# Altium integrated library NXP Semiconductors Standard MOSFETs.IntLib: 477 symbols (part 11 of 14)
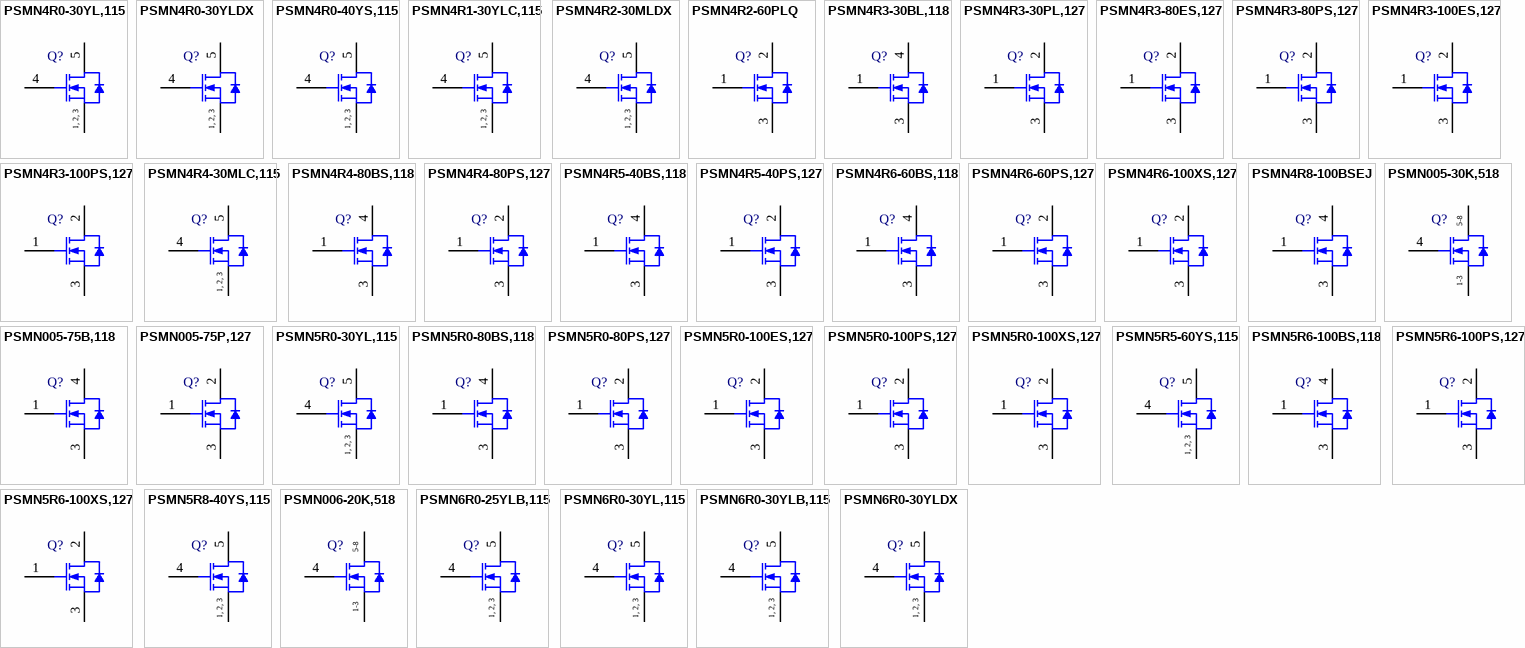
[diagram p22: symbols PSMN4R0-30YL,115 to PSMN6R0-30YLDX]

## PSMN4R5-40BS,118
designator Q?
N-Channel Standard Level MOSFET, 40 V, 100 A, 3-Pin SOT404, Tape and Reel; Manufacturer: NXP Semiconductors; PartNumber: PSMN4R5-40BS,118; Channel Type: N; Ciss [typ] (pF): 2683; Coss [typ] (pF): 660; ID [max] (A): 100; Packing: Tape & Reel; Qr [typ] (nC): 33; VDS [max] (V): 40; VGSth [typ] (V): 3; DatasheetVersion: Rev. 1; PackageVersion: 13-02-25, 02/2013; PackageReference: SOT404; PackageDescription: 3-Pin Plastic Single-ended Surface Mounted Package, Body 10 x 9.6 mm, Pitch 2.54 mm; Supplier 1: Digi-Key; Supplier Part Number 1: 568-9490-2-ND; Supplier 2: Digi-Key; Supplier Part Number 2: 568-9490-1-ND; Supplier 3: Digi-Key; Supplier Part Number 3: 568-9490-6-ND; Supplier 4: Mouser; Supplier Part Number 4: 771-PSMN4R5-40BS,118; Mounting Technology: Surface Mount; ComponentLink1Description: Manufacturer URL; ComponentLink1URL: http://www.nxp.com/; ComponentLink2Description: Datasheet; ComponentLink2URL: http://www.nxp.com/documents/data_sheet/PSMN4R5-40BS.pdf; ComponentLink3Description: Package Specification; ComponentLink3URL: http://www.nxp.com/documents/outline_drawing/sot404_po.pdf
footprint NXP-SOT404_N (DPAK, 3-Leads, Body 10.3x9.8mm, Pitch 2.54mm, IPC Medium Density)
footprint NXP-SOT404_L (DPAK, 3-Leads, Body 10.3x9.8mm, Pitch 2.54mm, IPC High Density)
footprint NXP-SOT404_M (DPAK, 3-Leads, Body 10.3x9.8mm, Pitch 2.54mm, IPC Low Density)
pins: 1 G "gate", 3 S "source", 4 D "mounting base; connected to drain"

## PSMN4R5-40PS,127
designator Q?
N-Channel Standard Level MOSFET, 40 V, 100 A, 3-Pin SOT78, Tube; Manufacturer: NXP Semiconductors; PartNumber: PSMN4R5-40PS,127; Channel Type: N; Ciss [typ] (pF): 2683; Coss [typ] (pF): 660; ID [max] (A): 100; Qr [typ] (nC): 33; VDS [max] (V): 40; VGSth [typ] (V): 3; DatasheetVersion: Rev. 02; PackageVersion: 08-06-13, 06/2008; PackageReference: SOT78; PackageDescription: 3-Pin Flange Mount, Vertical Straight Lead, Body 10 x 4.4 mm, Pitch 2.54 mm; Supplier 1: Digi-Key; Supplier Part Number 1: 568-4895-5-ND; Supplier 2: Newark; Supplier Part Number 2: 70R7970; Supplier 3: Mouser; Supplier Part Number 3: 771-PSMN4R5-40PS,127; Packing: Tube; Mounting Technology: Through Hole; Code_JEITA: SC-46; Code_JEDEC: 3-lead TO-220AB; ComponentLink1Description: Manufacturer URL; ComponentLink1URL: http://www.nxp.com/; ComponentLink2Description: Datasheet; ComponentLink2URL: http://www.nxp.com/documents/data_sheet/PSMN4R5-40PS.pdf; ComponentLink3Description: Package Specification; ComponentLink3URL: http://www.nxp.com/documents/outline_drawing/sot078_po.pdf
footprint NXP-SOT78 (FM, 3-Leads, Body 10.3x4.7mm, Pitch 2.54mm)
pins: 1 G "gate", 2 D "drain", 3 S "source"

## PSMN4R6-60BS,118
designator Q?
N-Channel Standard Level MOSFET, 60 V, 100 A, 3-Pin SOT404, Tape and Reel; Manufacturer: NXP Semiconductors; PartNumber: PSMN4R6-60BS,118; Channel Type: N; Ciss [typ] (pF): 4426; Coss [typ] (pF): 567; ID [max] (A): 100; Packing: Tape & Reel; Qr [typ] (nC): 64; VDS [max] (V): 60; VGSth [typ] (V): 3; DatasheetVersion: Rev. 1; PackageVersion: 13-02-25, 02/2013; PackageReference: SOT404; PackageDescription: 3-Pin Plastic Single-ended Surface Mounted Package, Body 10 x 9.6 mm, Pitch 2.54 mm; Supplier 1: Digi-Key; Supplier Part Number 1: 568-9492-2-ND; Supplier 2: Digi-Key; Supplier Part Number 2: 568-9492-1-ND; Supplier 3: Digi-Key; Supplier Part Number 3: 568-9492-6-ND; Supplier 4: Mouser; Supplier Part Number 4: 771-PSMN4R6-60BS,118; Mounting Technology: Surface Mount; ComponentLink1Description: Manufacturer URL; ComponentLink1URL: http://www.nxp.com/; ComponentLink2Description: Datasheet; ComponentLink2URL: http://www.nxp.com/documents/data_sheet/PSMN4R6-60BS.pdf; ComponentLink3Description: Package Specification; ComponentLink3URL: http://www.nxp.com/documents/outline_drawing/sot404_po.pdf
footprint NXP-SOT404_N (DPAK, 3-Leads, Body 10.3x9.8mm, Pitch 2.54mm, IPC Medium Density)
footprint NXP-SOT404_L (DPAK, 3-Leads, Body 10.3x9.8mm, Pitch 2.54mm, IPC High Density)
footprint NXP-SOT404_M (DPAK, 3-Leads, Body 10.3x9.8mm, Pitch 2.54mm, IPC Low Density)
pins: 1 G "gate", 3 S "source", 4 D "mounting base; connected to drain"

## PSMN4R6-60PS,127
designator Q?
N-Channel Standard Level MOSFET, 60 V, 100 A, 3-Pin SOT78, Tube; Manufacturer: NXP Semiconductors; PartNumber: PSMN4R6-60PS,127; Channel Type: N; Ciss [typ] (pF): 4426; Coss [typ] (pF): 567; ID [max] (A): 100; Qr [typ] (nC): 64; VDS [max] (V): 60; VGSth [typ] (V): 3; DatasheetVersion: Rev. 3; PackageVersion: 08-06-13, 06/2008; PackageReference: SOT78; PackageDescription: 3-Pin Flange Mount, Vertical Straight Lead, Body 10 x 4.4 mm, Pitch 2.54 mm; Supplier 1: Digi-Key; Supplier Part Number 1: 568-5780-5-ND; Supplier 2: Newark; Supplier Part Number 2: 72R6294; Supplier 3: Mouser; Supplier Part Number 3: 771-PSMN4R6-60PS-127; Packing: Tube; Mounting Technology: Through Hole; Code_JEITA: SC-46; Code_JEDEC: 3-lead TO-220AB; ComponentLink1Description: Manufacturer URL; ComponentLink1URL: http://www.nxp.com/; ComponentLink2Description: Datasheet; ComponentLink2URL: http://www.nxp.com/documents/data_sheet/PSMN4R6-60PS.pdf; ComponentLink3Description: Package Specification; ComponentLink3URL: http://www.nxp.com/documents/outline_drawing/sot078_po.pdf
footprint NXP-SOT78 (FM, 3-Leads, Body 10.3x4.7mm, Pitch 2.54mm)
pins: 1 G "gate", 2 D "drain", 3 S "source"

## PSMN4R6-100XS,127
designator Q?
N-Channel Standard Level MOSFET, 100 V, 70.4 A, 3-Pin SOT186A, Rail; Manufacturer: NXP Semiconductors; PartNumber: PSMN4R6-100XS,127; Channel Type: N; Ciss [typ] (pF): 9900; Coss [typ] (pF): 660; ID [max] (A): 70.4; Qr [typ] (nC): 173; VDS [max] (V): 100; VGSth [typ] (V): 3; DatasheetVersion: Rev. 1; PackageVersion: 06-02-14, 02/2006; PackageReference: SOT186A; PackageDescription: 3-Pin Flange Mount, Vertical Straight Lead, Body 10 x 4.3 mm, Pitch 2.54 mm; Supplier 1: Digi-Key; Supplier Part Number 1: 568-10158-ND; Supplier 2: Newark; Supplier Part Number 2: 45W9072; Supplier 3: Mouser; Supplier Part Number 3: 771-PSMN4R6-100XS127; Packing: Rail; Mounting Technology: Through Hole; Code_JEDEC: 3-lead TO-220F; ComponentLink1Description: Manufacturer URL; ComponentLink1URL: http://www.nxp.com/; ComponentLink2Description: Datasheet; ComponentLink2URL: http://www.nxp.com/documents/data_sheet/PSMN4R6-100XS.pdf; ComponentLink3Description: Package Specification; ComponentLink3URL: http://www.nxp.com/documents/outline_drawing/sot186a_po.pdf
footprint NXP-SOT186A (FM, 3-Leads, Body 10.3x4.6mm, Pitch 2.54mm)
pins: 1 G "gate", 2 D "drain", 3 S "source"

## PSMN4R8-100BSEJ
designator Q?
N-Channel Standard Level MOSFET, 100 V, 120 A, 3-Pin SOT404, Tape and Reel; Manufacturer: NXP Semiconductors; PartNumber: PSMN4R8-100BSEJ; Channel Type: N; Ciss [typ] (pF): 10665; Coss [typ] (pF): 674; ID [max] (A): 120; Packing: Tape & Reel; Qr [typ] (nC): 227; VDS [max] (V): 100; VGSth [typ] (V): 3; PackageVersion: 13-02-25, 02/2013; PackageReference: SOT404; PackageDescription: 3-Pin Plastic Single-ended Surface Mounted Package, Body 10 x 9.6 mm, Pitch 2.54 mm; Supplier 1: Digi-Key; Supplier Part Number 1: 568-10258-2-ND; Supplier 2: Digi-Key; Supplier Part Number 2: 568-10258-1-ND; Supplier 3: Digi-Key; Supplier Part Number 3: 568-10258-6-ND; Supplier 4: Newark; Supplier Part Number 4: 55W7093; Supplier 5: Mouser; Supplier Part Number 5: 771-PSMN4R8-100BSEJ; Mounting Technology: Surface Mount; ComponentLink1Description: Manufacturer URL; ComponentLink1URL: http://www.nxp.com/; ComponentLink2Description: Datasheet; ComponentLink2URL: http://www.nxp.com/documents/data_sheet/PSMN4R8-100BSE.pdf; ComponentLink3Description: Package Specification; ComponentLink3URL: http://www.nxp.com/documents/outline_drawing/sot404_po.pdf
footprint NXP-SOT404_N (DPAK, 3-Leads, Body 10.3x9.8mm, Pitch 2.54mm, IPC Medium Density)
footprint NXP-SOT404_L (DPAK, 3-Leads, Body 10.3x9.8mm, Pitch 2.54mm, IPC High Density)
footprint NXP-SOT404_M (DPAK, 3-Leads, Body 10.3x9.8mm, Pitch 2.54mm, IPC Low Density)
pins: 1 G "gate", 3 S "source", 4 D "mounting base; connected to drain"

## PSMN005-30K,518
designator Q?
N-Channel TrenchMOS SiliconMAX Logic Level FET, 30 V, 20 A, 8-Pin SOT96-1, Reel; Manufacturer: NXP Semiconductors; PartNumber: PSMN005-30K,518; Channel Type: N; Ciss [typ] (pF): 3100; Coss [typ] (pF): 605; ID [max] (A): 20; VDS [max] (V): 30; Code_IEC: 76000; DatasheetVersion: Rev. 2; PackageVersion: 03-02-18, 02/2003; PackageReference: SOT96-1; PackageDescription: 8-Pin Plastic Small Outline Package, Body 4.9 x 3.9 mm, Pitch 1.27 mm; Supplier 1: Digi-Key; Supplier Part Number 1: PSMN005-30K,518-ND; Supplier 2: Newark; Supplier Part Number 2: 79R2053; Supplier 3: Mouser; Supplier Part Number 3: 771-PSMN005-30K518; Packing: Reel; Qr [typ] (nC): 20; Mounting Technology: Surface Mount; Code_JEDEC: MS-012; ComponentLink1Description: Manufacturer URL; ComponentLink1URL: http://www.nxp.com/; ComponentLink2Description: Datasheet; ComponentLink2URL: http://www.nxp.com/documents/data_sheet/PSMN005-30K.pdf; ComponentLink3Description: Package Specification; ComponentLink3URL: http://www.nxp.com/documents/outline_drawing/sot096-1_po.pdf
footprint NXP-SOT96-1_N (SOIC, 8-Leads, Body 5x4mm, Pitch 1.27mm, IPC Medium Density)
footprint NXP-SOT96-1_L (SOIC, 8-Leads, Body 5x4mm, Pitch 1.27mm, IPC High Density)
footprint NXP-SOT96-1_M (SOIC, 8-Leads, Body 5x4mm, Pitch 1.27mm, IPC Low Density)
pins: 1 S "source", 2 S "source", 3 S "source", 4 G "gate", 5 D "drain", 6 D "drain", 7 D "drain", 8 D "drain"
text: 5-8; 1-3

## PSMN005-75B,118
designator Q?
N-Channel TrenchMOS SiliconMAX Standard Level FET, 75 V, 75 A, 3-Pin SOT404, Tape and Reel; Manufacturer: NXP Semiconductors; PartNumber: PSMN005-75B,118; Channel Type: N; Ciss [typ] (pF): 8250; Coss [typ] (pF): 920; ID [max] (A): 75; Packing: Tape & Reel; VGSth [typ] (V): 3; DatasheetVersion: Rev. 01; PackageVersion: 13-02-25, 02/2013; PackageReference: SOT404; PackageDescription: 3-Pin Plastic Single-ended Surface Mounted Package, Body 10 x 9.6 mm, Pitch 2.54 mm; Supplier 1: Digi-Key; Supplier Part Number 1: 568-5947-2-ND; Supplier 2: Digi-Key; Supplier Part Number 2: 568-5947-1-ND; Supplier 3: Digi-Key; Supplier Part Number 3: 568-5947-6-ND; Supplier 4: Mouser; Supplier Part Number 4: 771-PSMN005-75B118; VDS [max] (V): 75; Mounting Technology: Surface Mount; ComponentLink1Description: Manufacturer URL; ComponentLink1URL: http://www.nxp.com/; ComponentLink2Description: Datasheet; ComponentLink2URL: http://www.nxp.com/documents/data_sheet/PSMN005-75B.pdf; ComponentLink3Description: Package Specification; ComponentLink3URL: http://www.nxp.com/documents/outline_drawing/sot404_po.pdf
footprint NXP-SOT404_N (DPAK, 3-Leads, Body 10.3x9.8mm, Pitch 2.54mm, IPC Medium Density)
footprint NXP-SOT404_L (DPAK, 3-Leads, Body 10.3x9.8mm, Pitch 2.54mm, IPC High Density)
footprint NXP-SOT404_M (DPAK, 3-Leads, Body 10.3x9.8mm, Pitch 2.54mm, IPC Low Density)
pins: 1 G "gate", 3 S "source", 4 D "mounting base; connected to drain"

## PSMN005-75P,127
designator Q?
N-Channel TrenchMOS SiliconMAX Standard Level FET, 75 V, 75 A, 3-Pin SOT78, Tube; Manufacturer: NXP Semiconductors; PartNumber: PSMN005-75P,127; Channel Type: N; Ciss [typ] (pF): 8250; Coss [typ] (pF): 920; ID [max] (A): 75; VGSth [typ] (V): 3; DatasheetVersion: Rev. 01; PackageVersion: 08-06-13, 06/2008; PackageReference: SOT78; PackageDescription: 3-Pin Flange Mount, Vertical Straight Lead, Body 10 x 4.4 mm, Pitch 2.54 mm; Supplier 1: Digi-Key; Supplier Part Number 1: PSMN005-75P,127-ND; Supplier 2: Mouser; Supplier Part Number 2: 771-PSMN005-75P127; Packing: Tube; VDS [max] (V): 75; Mounting Technology: Through Hole; Code_JEITA: SC-46; Code_JEDEC: 3-lead TO-220AB; ComponentLink1Description: Manufacturer URL; ComponentLink1URL: http://www.nxp.com/; ComponentLink2Description: Datasheet; ComponentLink2URL: http://www.nxp.com/documents/data_sheet/PSMN005-75P.pdf; ComponentLink3Description: Package Specification; ComponentLink3URL: http://www.nxp.com/documents/outline_drawing/sot078_po.pdf
footprint NXP-SOT78 (FM, 3-Leads, Body 10.3x4.7mm, Pitch 2.54mm)
pins: 1 G "gate", 2 D "drain", 3 S "source"

## PSMN5R0-30YL,115
designator Q?
N-Channel Logic Level MOSFET, 30 V, 91 A, 5-Pin SOT669, Tape and Reel; Manufacturer: NXP Semiconductors; PartNumber: PSMN5R0-30YL,115; Channel Type: N; Ciss [typ] (pF): 1760; Coss [typ] (pF): 373; ID [max] (A): 91; Packing: Tape & Reel; Qr [typ] (nC): 21; VDS [max] (V): 30; VGSth [typ] (V): 1.7; DatasheetVersion: Rev. 4; PackageVersion: 13-02-27, 02/2013; PackageReference: SOT669; PackageDescription: 4-Pin Plastic Single-ended Surface Mounted Package, Body 4.9 x 3.95 mm, Pitch 1.27 mm; Supplier 1: Digi-Key; Supplier Part Number 1: 568-4684-2-ND; Supplier 2: Digi-Key; Supplier Part Number 2: 568-4684-1-ND; Supplier 3: Digi-Key; Supplier Part Number 3: 568-4684-6-ND; Supplier 4: Newark; Supplier Part Number 4: 79R2068; Supplier 5: Newark; Supplier Part Number 5: 70R7971; Supplier 6: Mouser; Supplier Part Number 6: 771-PSMN5R0-30YL-T/R; Mounting Technology: Surface Mount; Code_JEDEC: MO-235; ComponentLink1Description: Manufacturer URL; ComponentLink1URL: http://www.nxp.com/; ComponentLink2Description: Datasheet; ComponentLink2URL: http://www.nxp.com/documents/data_sheet/PSMN5R0-30YL.pdf; ComponentLink3Description: Package Specification; ComponentLink3URL: http://www.nxp.com/documents/outline_drawing/sot669_po.pdf
footprint NXP-SOT669_N (DPAK, 4-Leads, Body 5x4.1mm, Pitch 1.27mm, IPC Medium Density)
footprint NXP-SOT669_L (DPAK, 4-Leads, Body 5x4.1mm, Pitch 1.27mm, IPC High Density)
footprint NXP-SOT669_M (DPAK, 4-Leads, Body 5x4.1mm, Pitch 1.27mm, IPC Low Density)
pins: 1 S "source", 2 S "source", 3 S "source", 4 G "gate", 5 D "mounting base; connected to drain"
text: 1, 2, 3

## PSMN5R0-80BS,118
designator Q?
N-Channel Standard Level MOSFET, 80 V, 100 A, 3-Pin SOT404, Tape and Reel; Manufacturer: NXP Semiconductors; PartNumber: PSMN5R0-80BS,118; Channel Type: N; Ciss [typ] (pF): 6793; Coss [typ] (pF): 913; ID [max] (A): 100; Packing: Tape & Reel; Qr [typ] (nC): 116; VDS [max] (V): 80; VGSth [typ] (V): 3; DatasheetVersion: Rev. 1; PackageVersion: 13-02-25, 02/2013; PackageReference: SOT404; PackageDescription: 3-Pin Plastic Single-ended Surface Mounted Package, Body 10 x 9.6 mm, Pitch 2.54 mm; Supplier 1: Digi-Key; Supplier Part Number 1: 568-9494-2-ND; Supplier 2: Digi-Key; Supplier Part Number 2: 568-9494-1-ND; Supplier 3: Digi-Key; Supplier Part Number 3: 568-9494-6-ND; Supplier 4: Mouser; Supplier Part Number 4: 771-PSMN5R0-80BS,118; Mounting Technology: Surface Mount; ComponentLink1Description: Manufacturer URL; ComponentLink1URL: http://www.nxp.com/; ComponentLink2Description: Datasheet; ComponentLink2URL: http://www.nxp.com/documents/data_sheet/PSMN5R0-80BS.pdf; ComponentLink3Description: Package Specification; ComponentLink3URL: http://www.nxp.com/documents/outline_drawing/sot404_po.pdf
footprint NXP-SOT404_N (DPAK, 3-Leads, Body 10.3x9.8mm, Pitch 2.54mm, IPC Medium Density)
footprint NXP-SOT404_L (DPAK, 3-Leads, Body 10.3x9.8mm, Pitch 2.54mm, IPC High Density)
footprint NXP-SOT404_M (DPAK, 3-Leads, Body 10.3x9.8mm, Pitch 2.54mm, IPC Low Density)
pins: 1 G "gate", 3 S "source", 4 D "mounting base; connected to drain"

## PSMN5R0-80PS,127
designator Q?
N-Channel Standard Level MOSFET, 80 V, 100 A, 3-Pin SOT78, Tube; Manufacturer: NXP Semiconductors; PartNumber: PSMN5R0-80PS,127; Channel Type: N; Ciss [typ] (pF): 6793; Coss [typ] (pF): 913; ID [max] (A): 100; Qr [typ] (nC): 116; VDS [max] (V): 80; VGSth [typ] (V): 3; DatasheetVersion: Rev. 02; PackageVersion: 08-06-13, 06/2008; PackageReference: SOT78; PackageDescription: 3-Pin Flange Mount, Vertical Straight Lead, Body 10 x 4.4 mm, Pitch 2.54 mm; Supplier 1: Digi-Key; Supplier Part Number 1: 568-4894-5-ND; Supplier 2: Newark; Supplier Part Number 2: 70R7972; Supplier 3: Mouser; Supplier Part Number 3: 771-PSMN5R0-80PS,127; Packing: Tube; Mounting Technology: Through Hole; Code_JEITA: SC-46; Code_JEDEC: 3-lead TO-220AB; ComponentLink1Description: Manufacturer URL; ComponentLink1URL: http://www.nxp.com/; ComponentLink2Description: Datasheet; ComponentLink2URL: http://www.nxp.com/documents/data_sheet/PSMN5R0-80PS.pdf; ComponentLink3Description: Package Specification; ComponentLink3URL: http://www.nxp.com/documents/outline_drawing/sot078_po.pdf
footprint NXP-SOT78 (FM, 3-Leads, Body 10.3x4.7mm, Pitch 2.54mm)
pins: 1 G "gate", 2 D "drain", 3 S "source"

## PSMN5R0-100ES,127
designator Q?
N-Channel Standard Level MOSFET, 100 V, 120 A, 3-Pin SOT226, Rail; Manufacturer: NXP Semiconductors; PartNumber: PSMN5R0-100ES,127; Channel Type: N; Ciss [typ] (pF): 9900; Coss [typ] (pF): 660; ID [max] (A): 120; Qr [typ] (nC): 235; VDS [max] (V): 100; VGSth [typ] (V): 3; DatasheetVersion: Rev. 3; PackageVersion: 09-08-25, 08/2009; PackageReference: SOT226; PackageDescription: 3-Pin Flange Mount, Vertical Straight Lead, Body 10 x 4.3 mm, Pitch 2.54 mm; Supplier 1: Digi-Key; Supplier Part Number 1: 568-6714-5-ND; Supplier 2: Mouser; Supplier Part Number 2: 771-PSMN5R0100ES127; Packing: Rail; Mounting Technology: Through Hole; Code_JEDEC: TO-262; ComponentLink1Description: Manufacturer URL; ComponentLink1URL: http://www.nxp.com/; ComponentLink2Description: Datasheet; ComponentLink2URL: http://www.nxp.com/documents/data_sheet/PSMN5R0-100ES.pdf; ComponentLink3Description: Package Specification; ComponentLink3URL: http://www.nxp.com/documents/outline_drawing/sot226_po.pdf
footprint NXP-SOT226 (FM, 3-Leads, Body 10.3x4.5mm, Pitch 2.54mm)
pins: 1 G "gate", 2 D "drain", 3 S "source"

## PSMN5R0-100PS,127
designator Q?
N-Channel Standard Level MOSFET, 100 V, 120 A, 3-Pin SOT78, Tube; Manufacturer: NXP Semiconductors; PartNumber: PSMN5R0-100PS,127; Channel Type: N; Ciss [typ] (pF): 9900; Coss [typ] (pF): 660; ID [max] (A): 120; Qr [typ] (nC): 235; VDS [max] (V): 100; VGSth [typ] (V): 3; DatasheetVersion: Rev. 3; PackageVersion: 08-06-13, 06/2008; PackageReference: SOT78; PackageDescription: 3-Pin Flange Mount, Vertical Straight Lead, Body 10 x 4.4 mm, Pitch 2.54 mm; Supplier 1: Digi-Key; Supplier Part Number 1: 568-6718-5-ND; Supplier 2: Newark; Supplier Part Number 2: 54T9426; Supplier 3: Mouser; Supplier Part Number 3: 771-PSMN5R0100PS127; Packing: Tube; Mounting Technology: Through Hole; Code_JEITA: SC-46; Code_JEDEC: 3-lead TO-220AB; ComponentLink1Description: Manufacturer URL; ComponentLink1URL: http://www.nxp.com/; ComponentLink2Description: Datasheet; ComponentLink2URL: http://www.nxp.com/documents/data_sheet/PSMN5R0-100PS.pdf; ComponentLink3Description: Package Specification; ComponentLink3URL: http://www.nxp.com/documents/outline_drawing/sot078_po.pdf
footprint NXP-SOT78 (FM, 3-Leads, Body 10.3x4.7mm, Pitch 2.54mm)
pins: 1 G "gate", 2 D "drain", 3 S "source"

## PSMN5R0-100XS,127
designator Q?
N-Channel Standard Level MOSFET, 100 V, 67.5 A, 3-Pin SOT186A, Rail; Manufacturer: NXP Semiconductors; PartNumber: PSMN5R0-100XS,127; Channel Type: N; Ciss [typ] (pF): 9900; Coss [typ] (pF): 660; ID [max] (A): 67.5; Qr [typ] (nC): 173; VDS [max] (V): 100; VGSth [typ] (V): 3; DatasheetVersion: Rev. 1; PackageVersion: 06-02-14, 02/2006; PackageReference: SOT186A; PackageDescription: 3-Pin Flange Mount, Vertical Straight Lead, Body 10 x 4.3 mm, Pitch 2.54 mm; Supplier 1: Digi-Key; Supplier Part Number 1: 568-9760-5-ND; Supplier 2: Mouser; Supplier Part Number 2: 771-PSMN5R0-100XS127; Packing: Rail; Mounting Technology: Through Hole; Code_JEDEC: 3-lead TO-220F; ComponentLink1Description: Manufacturer URL; ComponentLink1URL: http://www.nxp.com/; ComponentLink2Description: Datasheet; ComponentLink2URL: http://www.nxp.com/documents/data_sheet/PSMN5R0-100XS.pdf; ComponentLink3Description: Package Specification; ComponentLink3URL: http://www.nxp.com/documents/outline_drawing/sot186a_po.pdf
footprint NXP-SOT186A (FM, 3-Leads, Body 10.3x4.6mm, Pitch 2.54mm)
pins: 1 G "gate", 2 D "drain", 3 S "source"

## PSMN5R5-60YS,115
designator Q?
N-Channel Standard Level FET, 60 V, 100 A, 5-Pin SOT669, Tape and Reel; Manufacturer: NXP Semiconductors; PartNumber: PSMN5R5-60YS,115; Channel Type: N; Ciss [typ] (pF): 3501; Coss [typ] (pF): 457; ID [max] (A): 100; Packing: Tape & Reel; Qr [typ] (nC): 58; VDS [max] (V): 60; VGSth [typ] (V): 3; DatasheetVersion: Rev. 02; PackageVersion: 13-02-27, 02/2013; PackageReference: SOT669; PackageDescription: 4-Pin Plastic Single-ended Surface Mounted Package, Body 4.9 x 3.95 mm, Pitch 1.27 mm; Supplier 1: Digi-Key; Supplier Part Number 1: 568-4973-2-ND; Supplier 2: Digi-Key; Supplier Part Number 2: 568-4973-1-ND; Supplier 3: Digi-Key; Supplier Part Number 3: 568-4973-6-ND; Supplier 4: Newark; Supplier Part Number 4: 79R2069; Supplier 5: Newark; Supplier Part Number 5: 72R6295; Supplier 6: Mouser; Supplier Part Number 6: 771-PSMN5R5-60YS-115; Mounting Technology: Surface Mount; Code_JEDEC: MO-235; ComponentLink1Description: Manufacturer URL; ComponentLink1URL: http://www.nxp.com/; ComponentLink2Description: Datasheet; ComponentLink2URL: http://www.nxp.com/documents/data_sheet/PSMN5R5-60YS.pdf; ComponentLink3Description: Package Specification; ComponentLink3URL: http://www.nxp.com/documents/outline_drawing/sot669_po.pdf
footprint NXP-SOT669_N (DPAK, 4-Leads, Body 5x4.1mm, Pitch 1.27mm, IPC Medium Density)
footprint NXP-SOT669_L (DPAK, 4-Leads, Body 5x4.1mm, Pitch 1.27mm, IPC High Density)
footprint NXP-SOT669_M (DPAK, 4-Leads, Body 5x4.1mm, Pitch 1.27mm, IPC Low Density)
pins: 1 S "source", 2 S "source", 3 S "source", 4 G "gate", 5 D "mounting base; connected to drain"
text: 1, 2, 3

## PSMN5R6-100BS,118
designator Q?
N-Channel Standard Level MOSFET, 100 V, 100 A, 3-Pin SOT404, Tape and Reel; Manufacturer: NXP Semiconductors; PartNumber: PSMN5R6-100BS,118; Channel Type: N; Ciss [typ] (pF): 8061; Coss [typ] (pF): 561; ID [max] (A): 100; Packing: Tape & Reel; Qr [typ] (nC): 182; VGSth [typ] (V): 3; DatasheetVersion: Rev. 1; PackageVersion: 13-02-25, 02/2013; PackageReference: SOT404; PackageDescription: 3-Pin Plastic Single-ended Surface Mounted Package, Body 10 x 9.6 mm, Pitch 2.54 mm; Supplier 1: Digi-Key; Supplier Part Number 1: 568-9495-2-ND; Supplier 2: Digi-Key; Supplier Part Number 2: 568-9495-1-ND; Supplier 3: Digi-Key; Supplier Part Number 3: 568-9495-6-ND; Supplier 4: Mouser; Supplier Part Number 4: 771-PSMN5R6-100BS118; VDS [max] (V): 100; Mounting Technology: Surface Mount; ComponentLink1Description: Manufacturer URL; ComponentLink1URL: http://www.nxp.com/; ComponentLink2Description: Datasheet; ComponentLink2URL: http://www.nxp.com/documents/data_sheet/PSMN5R6-100BS.pdf; ComponentLink3Description: Package Specification; ComponentLink3URL: http://www.nxp.com/documents/outline_drawing/sot404_po.pdf
footprint NXP-SOT404_N (DPAK, 3-Leads, Body 10.3x9.8mm, Pitch 2.54mm, IPC Medium Density)
footprint NXP-SOT404_L (DPAK, 3-Leads, Body 10.3x9.8mm, Pitch 2.54mm, IPC High Density)
footprint NXP-SOT404_M (DPAK, 3-Leads, Body 10.3x9.8mm, Pitch 2.54mm, IPC Low Density)
pins: 1 G "gate", 3 S "source", 4 D "mounting base; connected to drain"

## PSMN5R6-100PS,127
designator Q?
N-Channel Standard Level MOSFET, 100 V, 100 A, 3-Pin SOT78, Tube; Manufacturer: NXP Semiconductors; PartNumber: PSMN5R6-100PS,127; Channel Type: N; Ciss [typ] (pF): 8061; Coss [typ] (pF): 561; ID [max] (A): 100; Qr [typ] (nC): 182; VGSth [typ] (V): 3; PackageVersion: 08-06-13, 06/2008; PackageReference: SOT78; PackageDescription: 3-Pin Flange Mount, Vertical Straight Lead, Body 10 x 4.4 mm, Pitch 2.54 mm; Supplier 1: Digi-Key; Supplier Part Number 1: 568-4972-5-ND; Supplier 2: Newark; Supplier Part Number 2: 70R7973; Supplier 3: Mouser; Supplier Part Number 3: 771-PSMN5R6-100PS12; Packing: Tube; VDS [max] (V): 100; Mounting Technology: Through Hole; Code_JEITA: SC-46; Code_JEDEC: 3-lead TO-220AB; ComponentLink1Description: Manufacturer URL; ComponentLink1URL: http://www.nxp.com/; ComponentLink2Description: Datasheet; ComponentLink2URL: http://www.nxp.com/documents/data_sheet/PSMN5R6-100PS.pdf; ComponentLink3Description: Package Specification; ComponentLink3URL: http://www.nxp.com/documents/outline_drawing/sot078_po.pdf
footprint NXP-SOT78 (FM, 3-Leads, Body 10.3x4.7mm, Pitch 2.54mm)
pins: 1 G "gate", 2 D "drain", 3 S "source"

## PSMN5R6-100XS,127
designator Q?
N-Channel Standard Level MOSFET, 100 V, 61.8 A, 3-Pin SOT186A, Rail; Manufacturer: NXP Semiconductors; PartNumber: PSMN5R6-100XS,127; Channel Type: N; Ciss [typ] (pF): 8061; Coss [typ] (pF): 561; ID [max] (A): 61.8; Qr [typ] (nC): 182; VDS [max] (V): 100; VGSth [typ] (V): 3; DatasheetVersion: Rev. 3; PackageVersion: 06-02-14, 02/2006; PackageReference: SOT186A; PackageDescription: 3-Pin Flange Mount, Vertical Straight Lead, Body 10 x 4.3 mm, Pitch 2.54 mm; Supplier 1: Digi-Key; Supplier Part Number 1: 568-9496-5-ND; Supplier 2: Mouser; Supplier Part Number 2: 771-PSMN5R6-100XS127; Packing: Rail; Mounting Technology: Through Hole; Code_JEDEC: 3-lead TO-220F; ComponentLink1Description: Manufacturer URL; ComponentLink1URL: http://www.nxp.com/; ComponentLink2Description: Datasheet; ComponentLink2URL: http://www.nxp.com/documents/data_sheet/PSMN5R6-100XS.pdf; ComponentLink3Description: Package Specification; ComponentLink3URL: http://www.nxp.com/documents/outline_drawing/sot186a_po.pdf
footprint NXP-SOT186A (FM, 3-Leads, Body 10.3x4.6mm, Pitch 2.54mm)
pins: 1 G "gate", 2 D "drain", 3 S "source"

## PSMN5R8-40YS,115
designator Q?
N-Channel Standard Level MOSFET, 40 V, 90 A, 5-Pin SOT669, Tape and Reel; Manufacturer: NXP Semiconductors; PartNumber: PSMN5R8-40YS,115; Channel Type: N; Ciss [typ] (pF): 1703; Coss [typ] (pF): 384; ID [max] (A): 90; Packing: Tape & Reel; Qr [typ] (nC): 30; VDS [max] (V): 40; VGSth [typ] (V): 3; DatasheetVersion: Rev. 03; PackageVersion: 13-02-27, 02/2013; PackageReference: SOT669; PackageDescription: 4-Pin Plastic Single-ended Surface Mounted Package, Body 4.9 x 3.95 mm, Pitch 1.27 mm; Supplier 1: Digi-Key; Supplier Part Number 1: 568-5594-2-ND; Supplier 2: Digi-Key; Supplier Part Number 2: 568-5594-1-ND; Supplier 3: Digi-Key; Supplier Part Number 3: 568-5594-6-ND; Supplier 4: Mouser; Supplier Part Number 4: 771-PSMN5R840YS115; Mounting Technology: Surface Mount; Code_JEDEC: MO-235; ComponentLink1Description: Manufacturer URL; ComponentLink1URL: http://www.nxp.com/; ComponentLink2Description: Datasheet; ComponentLink2URL: http://www.nxp.com/documents/data_sheet/PSMN5R8-40YS.pdf; ComponentLink3Description: Package Specification; ComponentLink3URL: http://www.nxp.com/documents/outline_drawing/sot669_po.pdf
footprint NXP-SOT669_N (DPAK, 4-Leads, Body 5x4.1mm, Pitch 1.27mm, IPC Medium Density)
footprint NXP-SOT669_L (DPAK, 4-Leads, Body 5x4.1mm, Pitch 1.27mm, IPC High Density)
footprint NXP-SOT669_M (DPAK, 4-Leads, Body 5x4.1mm, Pitch 1.27mm, IPC Low Density)
pins: 1 S "source", 2 S "source", 3 S "source", 4 G "gate", 5 D "mounting base; connected to drain"
text: 1, 2, 3

## PSMN006-20K,518
designator Q?
N-Channel TrenchMOS SiliconMAX Ultra Low Level FET, 20 V, 32 A, 8-Pin SOT96-1, Reel; Manufacturer: NXP Semiconductors; PartNumber: PSMN006-20K,518; Channel Type: N; Ciss [typ] (pF): 4350; Coss [typ] (pF): 825; ID [max] (A): 32; Qr [typ] (nC): 17; VDS [max] (V): 20; VGSth [typ] (V): 0.7; Code_IEC: 76000; DatasheetVersion: Rev. 01; PackageVersion: 03-02-18, 02/2003; PackageReference: SOT96-1; PackageDescription: 8-Pin Plastic Small Outline Package, Body 4.9 x 3.9 mm, Pitch 1.27 mm; Supplier 1: Digi-Key; Supplier Part Number 1: PSMN006-20K,518-ND; Supplier 2: Mouser; Supplier Part Number 2: 771-PSMN006-20K518; Packing: Reel; Mounting Technology: Surface Mount; Code_JEDEC: MS-012; ComponentLink1Description: Manufacturer URL; ComponentLink1URL: http://www.nxp.com/; ComponentLink2Description: Datasheet; ComponentLink2URL: http://www.nxp.com/documents/data_sheet/PSMN006-20K.pdf; ComponentLink3Description: Package Specification; ComponentLink3URL: http://www.nxp.com/documents/outline_drawing/sot096-1_po.pdf
footprint NXP-SOT96-1_N (SOIC, 8-Leads, Body 5x4mm, Pitch 1.27mm, IPC Medium Density)
footprint NXP-SOT96-1_L (SOIC, 8-Leads, Body 5x4mm, Pitch 1.27mm, IPC High Density)
footprint NXP-SOT96-1_M (SOIC, 8-Leads, Body 5x4mm, Pitch 1.27mm, IPC Low Density)
pins: 1 S "source", 2 S "source", 3 S "source", 4 G "gate", 5 D "drain", 6 D "drain", 7 D "drain", 8 D "drain"
text: 5-8; 1-3

## PSMN6R0-25YLB,115
designator Q?
N-Channel Logic Level MOSFET Using NextPower Technology, 25 V, 73 A, 5-Pin SOT669, Tape and Reel; Manufacturer: NXP Semiconductors; PartNumber: PSMN6R0-25YLB,115; Channel Type: N; Ciss [typ] (pF): 1099; Coss [typ] (pF): 337; ID [max] (A): 73; Packing: Tape & Reel; Qr [typ] (nC): 18; VDS [max] (V): 25; VGSth [typ] (V): 1.42; DatasheetVersion: Rev. 2; PackageVersion: 13-02-27, 02/2013; PackageReference: SOT669; PackageDescription: 4-Pin Plastic Single-ended Surface Mounted Package, Body 4.9 x 3.95 mm, Pitch 1.27 mm; Supplier 1: Digi-Key; Supplier Part Number 1: 568-8529-2-ND; Supplier 2: Digi-Key; Supplier Part Number 2: 568-8529-1-ND; Supplier 3: Digi-Key; Supplier Part Number 3: 568-8529-6-ND; Supplier 4: Mouser; Supplier Part Number 4: 771-PSMN6R0-25YLB115; Mounting Technology: Surface Mount; Code_JEDEC: MO-235; ComponentLink1Description: Manufacturer URL; ComponentLink1URL: http://www.nxp.com/; ComponentLink2Description: Datasheet; ComponentLink2URL: http://www.nxp.com/documents/data_sheet/PSMN6R0-25YLB.pdf; ComponentLink3Description: Package Specification; ComponentLink3URL: http://www.nxp.com/documents/outline_drawing/sot669_po.pdf
footprint NXP-SOT669_N (DPAK, 4-Leads, Body 5x4.1mm, Pitch 1.27mm, IPC Medium Density)
footprint NXP-SOT669_L (DPAK, 4-Leads, Body 5x4.1mm, Pitch 1.27mm, IPC High Density)
footprint NXP-SOT669_M (DPAK, 4-Leads, Body 5x4.1mm, Pitch 1.27mm, IPC Low Density)
pins: 1 S "source", 2 S "source", 3 S "source", 4 G "gate", 5 D "mounting base; connected to drain"
text: 1, 2, 3

## PSMN6R0-30YL,115
designator Q?
N-Channel Logic Level MOSFET, 30 V, 79 A, 5-Pin SOT669, Tape and Reel; Manufacturer: NXP Semiconductors; PartNumber: PSMN6R0-30YL,115; Channel Type: N; Ciss [typ] (pF): 1425; Coss [typ] (pF): 313; ID [max] (A): 79; Packing: Tape & Reel; Qr [typ] (nC): 25; VDS [max] (V): 30; VGSth [typ] (V): 1.7; DatasheetVersion: Rev. 04; PackageVersion: 13-02-27, 02/2013; PackageReference: SOT669; PackageDescription: 4-Pin Plastic Single-ended Surface Mounted Package, Body 4.9 x 3.95 mm, Pitch 1.27 mm; Supplier 1: Digi-Key; Supplier Part Number 1: 568-4685-2-ND; Supplier 2: Digi-Key; Supplier Part Number 2: 568-4685-1-ND; Supplier 3: Digi-Key; Supplier Part Number 3: 568-4685-6-ND; Supplier 4: Newark; Supplier Part Number 4: 79R2070; Supplier 5: Mouser; Supplier Part Number 5: 771-PSMN6R0-30YL-T/R; Mounting Technology: Surface Mount; Code_JEDEC: MO-235; ComponentLink1Description: Manufacturer URL; ComponentLink1URL: http://www.nxp.com/; ComponentLink2Description: Datasheet; ComponentLink2URL: http://www.nxp.com/documents/data_sheet/PSMN6R0-30YL.pdf; ComponentLink3Description: Package Specification; ComponentLink3URL: http://www.nxp.com/documents/outline_drawing/sot669_po.pdf
footprint NXP-SOT669_N (DPAK, 4-Leads, Body 5x4.1mm, Pitch 1.27mm, IPC Medium Density)
footprint NXP-SOT669_L (DPAK, 4-Leads, Body 5x4.1mm, Pitch 1.27mm, IPC High Density)
footprint NXP-SOT669_M (DPAK, 4-Leads, Body 5x4.1mm, Pitch 1.27mm, IPC Low Density)
pins: 1 S "source", 2 S "source", 3 S "source", 4 G "gate", 5 D "mounting base; connected to drain"
text: 1, 2, 3

## PSMN6R0-30YLB,115
designator Q?
N-Channel Logic Level MOSFET Using NextPower Technology, 30 V, 71 A, 5-Pin SOT669, Tape and Reel; Manufacturer: NXP Semiconductors; PartNumber: PSMN6R0-30YLB,115; Channel Type: N; Ciss [typ] (pF): 1088; Coss [typ] (pF): 278; ID [max] (A): 71; Packing: Tape & Reel; Qr [typ] (nC): 15; VDS [max] (V): 30; VGSth [typ] (V): 1.48; DatasheetVersion: Rev. 2; PackageVersion: 13-02-27, 02/2013; PackageReference: SOT669; PackageDescription: 4-Pin Plastic Single-ended Surface Mounted Package, Body 4.9 x 3.95 mm, Pitch 1.27 mm; Supplier 1: Digi-Key; Supplier Part Number 1: 568-9718-2-ND; Supplier 2: Digi-Key; Supplier Part Number 2: 568-9718-1-ND; Supplier 3: Digi-Key; Supplier Part Number 3: 568-9718-6-ND; Supplier 4: Mouser; Supplier Part Number 4: 771-PSMN6R0-30YLB115; Mounting Technology: Surface Mount; Code_JEDEC: MO-235; ComponentLink1Description: Manufacturer URL; ComponentLink1URL: http://www.nxp.com/; ComponentLink2Description: Datasheet; ComponentLink2URL: http://www.nxp.com/documents/data_sheet/PSMN6R0-30YLB.pdf; ComponentLink3Description: Package Specification; ComponentLink3URL: http://www.nxp.com/documents/outline_drawing/sot669_po.pdf
footprint NXP-SOT669_N (DPAK, 4-Leads, Body 5x4.1mm, Pitch 1.27mm, IPC Medium Density)
footprint NXP-SOT669_L (DPAK, 4-Leads, Body 5x4.1mm, Pitch 1.27mm, IPC High Density)
footprint NXP-SOT669_M (DPAK, 4-Leads, Body 5x4.1mm, Pitch 1.27mm, IPC Low Density)
pins: 1 S "source", 2 S "source", 3 S "source", 4 G "gate", 5 D "mounting base; connected to drain"
text: 1, 2, 3

## PSMN6R0-30YLDX
designator Q?
N-Channel Logic Level MOSFET Using NextPowerS3 Technology, 30 V, 66 A, 5-Pin SOT669, Tape and Reel; Manufacturer: NXP Semiconductors; PartNumber: PSMN6R0-30YLDX; Channel Type: N; Ciss [typ] (pF): 832; Coss [typ] (pF): 587; ID [max] (A): 66; Packing: Tape & Reel; Qr [typ] (nC): 12.6; VDS [max] (V): 30; VGSth [typ] (V): 1.83; PackageVersion: 13-02-27, 02/2013; PackageReference: SOT669; PackageDescription: 4-Pin Plastic Single-ended Surface Mounted Package, Body 4.9 x 3.95 mm, Pitch 1.27 mm; Supplier 1: Digi-Key; Supplier Part Number 1: 568-11433-2-ND; Supplier 2: Digi-Key; Supplier Part Number 2: 568-11433-1-ND; Supplier 3: Digi-Key; Supplier Part Number 3: 568-11433-6-ND; Supplier 4: Newark; Supplier Part Number 4: 23X8438; Supplier 5: Mouser; Supplier Part Number 5: 771-PSMN6R0-30YLDX; Mounting Technology: Surface Mount; Code_JEDEC: MO-235; ComponentLink1Description: Manufacturer URL; ComponentLink1URL: http://www.nxp.com/; ComponentLink2Description: Datasheet; ComponentLink2URL: http://www.nxp.com/documents/data_sheet/PSMN6R0-30YLD.pdf; ComponentLink3Description: Package Specification; ComponentLink3URL: http://www.nxp.com/documents/outline_drawing/sot669_po.pdf
footprint NXP-SOT669_N (DPAK, 4-Leads, Body 5x4.1mm, Pitch 1.27mm, IPC Medium Density)
footprint NXP-SOT669_L (DPAK, 4-Leads, Body 5x4.1mm, Pitch 1.27mm, IPC High Density)
footprint NXP-SOT669_M (DPAK, 4-Leads, Body 5x4.1mm, Pitch 1.27mm, IPC Low Density)
pins: 1 S "source", 2 S "source", 3 S "source", 4 G "gate", 5 D "mounting base; connected to drain"
text: 1, 2, 3

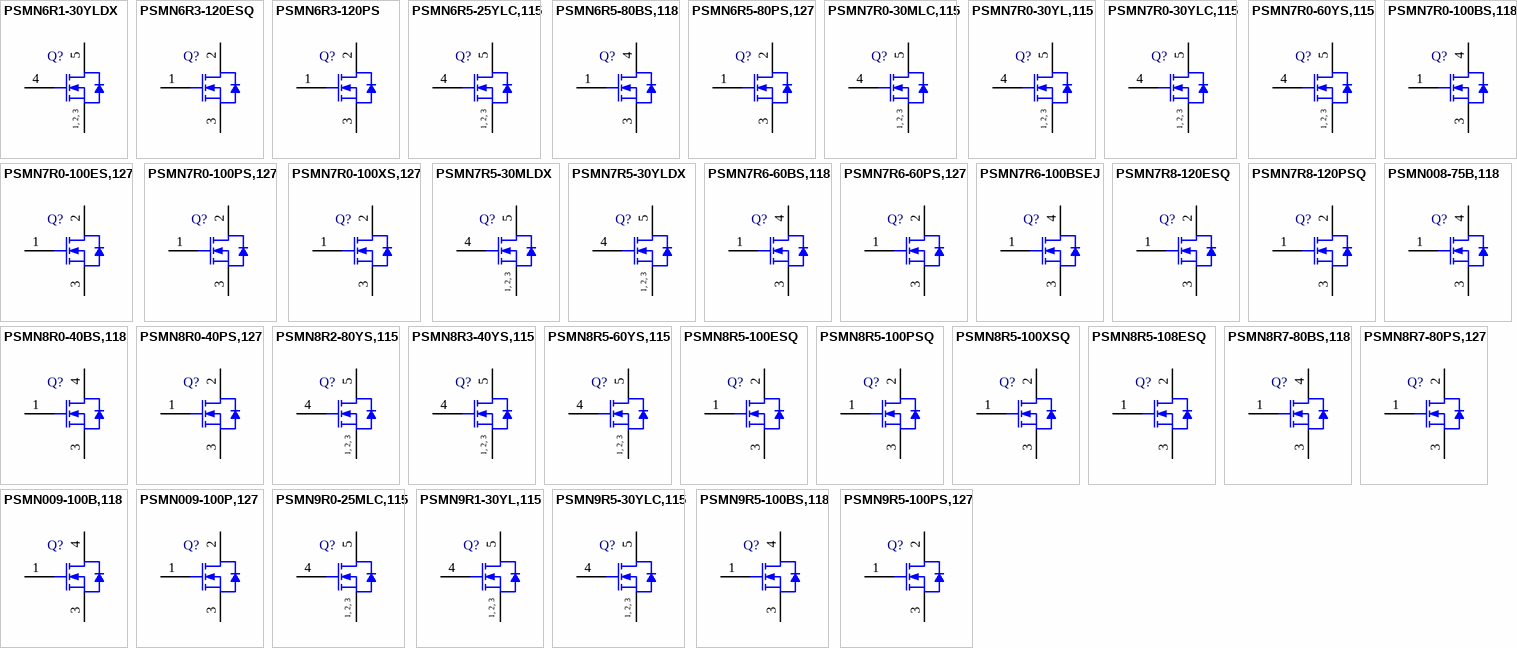
[diagram p10: symbols PSMN6R1-30YLDX to PSMN9R5-100PS,127]

## PSMN6R1-30YLDX
designator Q?
N-Channel Logic Level MOSFET Using NextPowerS3 Technology, 30 V, 66 A, 5-Pin SOT669, Tape and Reel; Manufacturer: NXP Semiconductors; PartNumber: PSMN6R1-30YLDX; Channel Type: N; Ciss [typ] (pF): 817; Coss [typ] (pF): 605; ID [max] (A): 66; Packing: Tape & Reel; Qr [typ] (nC): 12.6; VDS [max] (V): 30; VGSth [typ] (V): 1.68; PackageVersion: 13-02-27, 02/2013; PackageReference: SOT669; PackageDescription: 4-Pin Plastic Single-ended Surface Mounted Package, Body 4.9 x 3.95 mm, Pitch 1.27 mm; Supplier 1: Digi-Key; Supplier Part Number 1: 568-11434-2-ND; Supplier 2: Digi-Key; Supplier Part Number 2: 568-11434-1-ND; Supplier 3: Digi-Key; Supplier Part Number 3: 568-11434-6-ND; Supplier 4: Newark; Supplier Part Number 4: 23X8439; Supplier 5: Mouser; Supplier Part Number 5: 771-PSMN6R1-30YLDX; Mounting Technology: Surface Mount; Code_JEDEC: MO-235; ComponentLink1Description: Manufacturer URL; ComponentLink1URL: http://www.nxp.com/; ComponentLink2Description: Datasheet; ComponentLink2URL: http://www.nxp.com/documents/data_sheet/PSMN6R1-30YLD.pdf; ComponentLink3Description: Package Specification; ComponentLink3URL: http://www.nxp.com/documents/outline_drawing/sot669_po.pdf
footprint NXP-SOT669_N (DPAK, 4-Leads, Body 5x4.1mm, Pitch 1.27mm, IPC Medium Density)
footprint NXP-SOT669_L (DPAK, 4-Leads, Body 5x4.1mm, Pitch 1.27mm, IPC High Density)
footprint NXP-SOT669_M (DPAK, 4-Leads, Body 5x4.1mm, Pitch 1.27mm, IPC Low Density)
pins: 1 S "source", 2 S "source", 3 S "source", 4 G "gate", 5 D "mounting base; connected to drain"
text: 1, 2, 3

## PSMN6R3-120ESQ
designator Q?
N-Channel Standard Level MOSFET, 120 V, 70 A, 3-Pin SOT226, Rail; Manufacturer: NXP Semiconductors; PartNumber: PSMN6R3-120ESQ; Channel Type: N; Ciss [typ] (pF): 11384; Coss [typ] (pF): 534; ID [max] (A): 70; Qr [typ] (nC): 264.2; VDS [max] (V): 120; VGSth [typ] (V): 3; PackageVersion: 09-08-25, 08/2009; PackageReference: SOT226; PackageDescription: 3-Pin Flange Mount, Vertical Straight Lead, Body 10 x 4.3 mm, Pitch 2.54 mm; Supplier 1: Digi-Key; Supplier Part Number 1: 568-10988-5-ND; Supplier 2: Mouser; Supplier Part Number 2: 771-PSMN6R3120ESQ; Packing: Rail; Mounting Technology: Through Hole; Code_JEDEC: TO-262; ComponentLink1Description: Manufacturer URL; ComponentLink1URL: http://www.nxp.com/; ComponentLink2Description: Datasheet; ComponentLink2URL: http://www.nxp.com/documents/data_sheet/PSMN6R3-120ES.pdf; ComponentLink3Description: Package Specification; ComponentLink3URL: http://www.nxp.com/documents/outline_drawing/sot226_po.pdf
footprint NXP-SOT226 (FM, 3-Leads, Body 10.3x4.5mm, Pitch 2.54mm)
pins: 1 G "gate", 2 D "drain", 3 S "source"

## PSMN6R3-120PS
designator Q?
N-Channel Standard Level MOSFET, 120 V, 70 A, 3-Pin SOT78, Tube; Manufacturer: NXP Semiconductors; PartNumber: PSMN6R3-120PS; Channel Type: N; Ciss [typ] (pF): 11384; Coss [typ] (pF): 534; ID [max] (A): 70; Qr [typ] (nC): 264.2; VDS [max] (V): 120; VGSth [typ] (V): 3; PackageVersion: 08-06-13, 06/2008; PackageReference: SOT78; PackageDescription: 3-Pin Flange Mount, Vertical Straight Lead, Body 10 x 4.4 mm, Pitch 2.54 mm; Supplier 1: Digi-Key; Supplier Part Number 1: 568-10168-5-ND; Supplier 2: Mouser; Supplier Part Number 2: 771-PSMN6R3-120PS; Packing: Tube; Mounting Technology: Through Hole; Code_JEITA: SC-46; Code_JEDEC: 3-lead TO-220AB; ComponentLink1Description: Manufacturer URL; ComponentLink1URL: http://www.nxp.com/; ComponentLink2Description: Datasheet; ComponentLink2URL: http://www.nxp.com/documents/data_sheet/PSMN6R3-120PS.pdf; ComponentLink3Description: Package Specification; ComponentLink3URL: http://www.nxp.com/documents/outline_drawing/sot078_po.pdf
footprint NXP-SOT78 (FM, 3-Leads, Body 10.3x4.7mm, Pitch 2.54mm)
pins: 1 G "gate", 2 D "drain", 3 S "source"

## PSMN6R5-25YLC,115
designator Q?
N-Channel Logic Level MOSFET Using NextPower Technology, 25 V, 64 A, 5-Pin SOT669, Tape and Reel; Manufacturer: NXP Semiconductors; PartNumber: PSMN6R5-25YLC,115; Channel Type: N; Ciss [typ] (pF): 1093; Coss [typ] (pF): 282; ID [max] (A): 64; Packing: Tape & Reel; Qr [typ] (nC): 15; VDS [max] (V): 25; VGSth [typ] (V): 1.54; DatasheetVersion: Rev. 2; PackageVersion: 13-02-27, 02/2013; PackageReference: SOT669; PackageDescription: 4-Pin Plastic Single-ended Surface Mounted Package, Body 4.9 x 3.95 mm, Pitch 1.27 mm; Supplier 1: Digi-Key; Supplier Part Number 1: 568-7588-2-ND; Supplier 2: Digi-Key; Supplier Part Number 2: 568-7588-1-ND; Supplier 3: Digi-Key; Supplier Part Number 3: 568-7588-6-ND; Supplier 4: Mouser; Supplier Part Number 4: 771-PSMN6R5-25YLC115; Mounting Technology: Surface Mount; Code_JEDEC: MO-235; ComponentLink1Description: Manufacturer URL; ComponentLink1URL: http://www.nxp.com/; ComponentLink2Description: Datasheet; ComponentLink2URL: http://www.nxp.com/documents/data_sheet/PSMN6R5-25YLC.pdf; ComponentLink3Description: Package Specification; ComponentLink3URL: http://www.nxp.com/documents/outline_drawing/sot669_po.pdf
footprint NXP-SOT669_N (DPAK, 4-Leads, Body 5x4.1mm, Pitch 1.27mm, IPC Medium Density)
footprint NXP-SOT669_L (DPAK, 4-Leads, Body 5x4.1mm, Pitch 1.27mm, IPC High Density)
footprint NXP-SOT669_M (DPAK, 4-Leads, Body 5x4.1mm, Pitch 1.27mm, IPC Low Density)
pins: 1 S "source", 2 S "source", 3 S "source", 4 G "gate", 5 D "mounting base; connected to drain"
text: 1, 2, 3

## PSMN6R5-80BS,118
designator Q?
N-Channel Standard Level MOSFET, 80 V, 100 A, 3-Pin SOT404, Tape and Reel; Manufacturer: NXP Semiconductors; PartNumber: PSMN6R5-80BS,118; Channel Type: N; Ciss [typ] (pF): 4461; Coss [typ] (pF): 410; ID [max] (A): 100; Packing: Tape & Reel; Qr [typ] (nC): 82; VDS [max] (V): 80; VGSth [typ] (V): 3; DatasheetVersion: Rev. 2; PackageVersion: 13-02-25, 02/2013; PackageReference: SOT404; PackageDescription: 3-Pin Plastic Single-ended Surface Mounted Package, Body 10 x 9.6 mm, Pitch 2.54 mm; Supplier 1: Digi-Key; Supplier Part Number 1: 568-9704-2-ND; Supplier 2: Digi-Key; Supplier Part Number 2: 568-9704-1-ND; Supplier 3: Digi-Key; Supplier Part Number 3: 568-9704-6-ND; Supplier 4: Mouser; Supplier Part Number 4: 771-PSMN6R5-80BS,118; Mounting Technology: Surface Mount; ComponentLink1Description: Manufacturer URL; ComponentLink1URL: http://www.nxp.com/; ComponentLink2Description: Datasheet; ComponentLink2URL: http://www.nxp.com/documents/data_sheet/PSMN6R5-80BS.pdf; ComponentLink3Description: Package Specification; ComponentLink3URL: http://www.nxp.com/documents/outline_drawing/sot404_po.pdf
footprint NXP-SOT404_N (DPAK, 3-Leads, Body 10.3x9.8mm, Pitch 2.54mm, IPC Medium Density)
footprint NXP-SOT404_L (DPAK, 3-Leads, Body 10.3x9.8mm, Pitch 2.54mm, IPC High Density)
footprint NXP-SOT404_M (DPAK, 3-Leads, Body 10.3x9.8mm, Pitch 2.54mm, IPC Low Density)
pins: 1 G "gate", 3 S "source", 4 D "mounting base; connected to drain"

## PSMN6R5-80PS,127
designator Q?
N-Channel Standard Level MOSFET, 80 V, 100 A, 3-Pin SOT78, Tube; Manufacturer: NXP Semiconductors; PartNumber: PSMN6R5-80PS,127; Channel Type: N; Ciss [typ] (pF): 4461; Coss [typ] (pF): 410; ID [max] (A): 100; Qr [typ] (nC): 82; VDS [max] (V): 80; VGSth [typ] (V): 3; DatasheetVersion: Rev. 02; PackageVersion: 08-06-13, 06/2008; PackageReference: SOT78; PackageDescription: 3-Pin Flange Mount, Vertical Straight Lead, Body 10 x 4.4 mm, Pitch 2.54 mm; Supplier 1: Digi-Key; Supplier Part Number 1: 568-7515-5-ND; Supplier 2: Newark; Supplier Part Number 2: 99R2984; Supplier 3: Mouser; Supplier Part Number 3: 771-PSMN6R580PS127; Packing: Tube; Mounting Technology: Through Hole; Code_JEITA: SC-46; Code_JEDEC: 3-lead TO-220AB; ComponentLink1Description: Manufacturer URL; ComponentLink1URL: http://www.nxp.com/; ComponentLink2Description: Datasheet; ComponentLink2URL: http://www.nxp.com/documents/data_sheet/PSMN6R5-80PS.pdf; ComponentLink3Description: Package Specification; ComponentLink3URL: http://www.nxp.com/documents/outline_drawing/sot078_po.pdf
footprint NXP-SOT78 (FM, 3-Leads, Body 10.3x4.7mm, Pitch 2.54mm)
pins: 1 G "gate", 2 D "drain", 3 S "source"

## PSMN7R0-30MLC,115
designator Q?
N-Channel Logic Level MOSFET Using NextPower Technology, 30 V, 67 A, 5-Pin SOT1210, Reel; Manufacturer: NXP Semiconductors; PartNumber: PSMN7R0-30MLC,115; Channel Type: N; Ciss [typ] (pF): 1076; Coss [typ] (pF): 248; ID [max] (A): 67; Qr [typ] (nC): 11.9; VDS [max] (V): 30; VGSth [typ] (V): 1.75; DatasheetVersion: Rev. 4; PackageVersion: 14-04-25, 04/2014; PackageReference: SOT1210; PackageDescription: 8-Pin Plastic Single-ended Surface Mounted Package, Body 3.3 x 2.6 mm, Pitch 0.65 mm; Supplier 1: Digi-Key; Supplier Part Number 1: 568-9577-2-ND; Supplier 2: Digi-Key; Supplier Part Number 2: 568-9577-1-ND; Supplier 3: Digi-Key; Supplier Part Number 3: 568-9577-6-ND; Supplier 4: Mouser; Supplier Part Number 4: 771-PSMN7R0-30MLC115; Packing: Reel; Mounting Technology: Surface Mount; ComponentLink1Description: Manufacturer URL; ComponentLink1URL: http://www.nxp.com/; ComponentLink2Description: Datasheet; ComponentLink2URL: http://www.nxp.com/documents/data_sheet/PSMN7R0-30MLC.pdf; ComponentLink3Description: Package Specification; ComponentLink3URL: http://www.nxp.com/documents/outline_drawing/sot1210_po.pdf
footprint NXP-SOT1210_N (DPAK, 5-Leads, Body 3.4x2.7mm, Pitch 0.65mm, IPC Medium Density)
footprint NXP-SOT1210_L (DPAK, 5-Leads, Body 3.4x2.7mm, Pitch 0.65mm, IPC High Density)
footprint NXP-SOT1210_M (DPAK, 5-Leads, Body 3.4x2.7mm, Pitch 0.65mm, IPC Low Density)
pins: 1 S "source", 2 S "source", 3 S "source", 4 G "gate", 5 D "mounting base; connected to drain"
text: 1, 2, 3

## PSMN7R0-30YL,115
designator Q?
N-Channel Logic Level MOSFET, 30 V, 76 A, 5-Pin SOT669, Tape and Reel; Manufacturer: NXP Semiconductors; PartNumber: PSMN7R0-30YL,115; Channel Type: N; Ciss [typ] (pF): 1270; Coss [typ] (pF): 255; ID [max] (A): 76; Packing: Tape & Reel; Qr [typ] (nC): 22; VDS [max] (V): 30; VGSth [typ] (V): 1.7; DatasheetVersion: Rev. 04; PackageVersion: 13-02-27, 02/2013; PackageReference: SOT669; PackageDescription: 4-Pin Plastic Single-ended Surface Mounted Package, Body 4.9 x 3.95 mm, Pitch 1.27 mm; Supplier 1: Digi-Key; Supplier Part Number 1: 568-4686-2-ND; Supplier 2: Digi-Key; Supplier Part Number 2: 568-4686-1-ND; Supplier 3: Digi-Key; Supplier Part Number 3: 568-4686-6-ND; Supplier 4: Newark; Supplier Part Number 4: 75R4853; Supplier 5: Newark; Supplier Part Number 5: 70R7975; Supplier 6: Mouser; Supplier Part Number 6: 771-PSMN7R0-30YL-T/R; Mounting Technology: Surface Mount; Code_JEDEC: MO-235; ComponentLink1Description: Manufacturer URL; ComponentLink1URL: http://www.nxp.com/; ComponentLink2Description: Datasheet; ComponentLink2URL: http://www.nxp.com/documents/data_sheet/PSMN7R0-30YL.pdf; ComponentLink3Description: Package Specification; ComponentLink3URL: http://www.nxp.com/documents/outline_drawing/sot669_po.pdf
footprint NXP-SOT669_N (DPAK, 4-Leads, Body 5x4.1mm, Pitch 1.27mm, IPC Medium Density)
footprint NXP-SOT669_L (DPAK, 4-Leads, Body 5x4.1mm, Pitch 1.27mm, IPC High Density)
footprint NXP-SOT669_M (DPAK, 4-Leads, Body 5x4.1mm, Pitch 1.27mm, IPC Low Density)
pins: 1 S "source", 2 S "source", 3 S "source", 4 G "gate", 5 D "mounting base; connected to drain"
text: 1, 2, 3

## PSMN7R0-30YLC,115
designator Q?
N-Channel Logic Level MOSFET Using NextPower Technology, 30 V, 61 A, 5-Pin SOT669, Tape and Reel; Manufacturer: NXP Semiconductors; PartNumber: PSMN7R0-30YLC,115; Channel Type: N; Ciss [typ] (pF): 1057; Coss [typ] (pF): 235; ID [max] (A): 61; Packing: Tape & Reel; Qr [typ] (nC): 13; VDS [max] (V): 30; VGSth [typ] (V): 1.58; DatasheetVersion: Rev. 2; PackageVersion: 13-02-27, 02/2013; PackageReference: SOT669; PackageDescription: 4-Pin Plastic Single-ended Surface Mounted Package, Body 4.9 x 3.95 mm, Pitch 1.27 mm; Supplier 1: Digi-Key; Supplier Part Number 1: 568-7589-2-ND; Supplier 2: Digi-Key; Supplier Part Number 2: 568-7589-1-ND; Supplier 3: Digi-Key; Supplier Part Number 3: 568-7589-6-ND; Supplier 4: Mouser; Supplier Part Number 4: 771-PSMN7R0-30YLC115; Mounting Technology: Surface Mount; Code_JEDEC: MO-235; ComponentLink1Description: Manufacturer URL; ComponentLink1URL: http://www.nxp.com/; ComponentLink2Description: Datasheet; ComponentLink2URL: http://www.nxp.com/documents/data_sheet/PSMN7R0-30YLC.pdf; ComponentLink3Description: Package Specification; ComponentLink3URL: http://www.nxp.com/documents/outline_drawing/sot669_po.pdf
footprint NXP-SOT669_N (DPAK, 4-Leads, Body 5x4.1mm, Pitch 1.27mm, IPC Medium Density)
footprint NXP-SOT669_L (DPAK, 4-Leads, Body 5x4.1mm, Pitch 1.27mm, IPC High Density)
footprint NXP-SOT669_M (DPAK, 4-Leads, Body 5x4.1mm, Pitch 1.27mm, IPC Low Density)
pins: 1 S "source", 2 S "source", 3 S "source", 4 G "gate", 5 D "mounting base; connected to drain"
text: 1, 2, 3

## PSMN7R0-60YS,115
designator Q?
N-Channel Standard Level MOSFET, 60 V, 89 A, 5-Pin SOT669, Tape and Reel; Manufacturer: NXP Semiconductors; PartNumber: PSMN7R0-60YS,115; Channel Type: N; Ciss [typ] (pF): 2712; Coss [typ] (pF): 366; ID [max] (A): 89; Packing: Tape & Reel; Qr [typ] (nC): 57.3; VDS [max] (V): 60; VGSth [typ] (V): 3; DatasheetVersion: Rev. 02; PackageVersion: 13-02-27, 02/2013; PackageReference: SOT669; PackageDescription: 4-Pin Plastic Single-ended Surface Mounted Package, Body 4.9 x 3.95 mm, Pitch 1.27 mm; Supplier 1: Digi-Key; Supplier Part Number 1: 568-5596-2-ND; Supplier 2: Digi-Key; Supplier Part Number 2: 568-5596-1-ND; Supplier 3: Digi-Key; Supplier Part Number 3: 568-5596-6-ND; Supplier 4: Farnell; Supplier Part Number 4: 2345301; Supplier 5: Newark; Supplier Part Number 5: 27T3312; Supplier 6: Mouser; Supplier Part Number 6: 771-PSMN7R0-60YS115; Mounting Technology: Surface Mount; Code_JEDEC: MO-235; ComponentLink1Description: Manufacturer URL; ComponentLink1URL: http://www.nxp.com/; ComponentLink2Description: Datasheet; ComponentLink2URL: http://www.nxp.com/documents/data_sheet/PSMN7R0-60YS.pdf; ComponentLink3Description: Package Specification; ComponentLink3URL: http://www.nxp.com/documents/outline_drawing/sot669_po.pdf
footprint NXP-SOT669_N (DPAK, 4-Leads, Body 5x4.1mm, Pitch 1.27mm, IPC Medium Density)
footprint NXP-SOT669_L (DPAK, 4-Leads, Body 5x4.1mm, Pitch 1.27mm, IPC High Density)
footprint NXP-SOT669_M (DPAK, 4-Leads, Body 5x4.1mm, Pitch 1.27mm, IPC Low Density)
pins: 1 S "source", 2 S "source", 3 S "source", 4 G "gate", 5 D "mounting base; connected to drain"
text: 1, 2, 3